# Altium schematic symbol library TEFT4300.SchLib: 1 symbol
Pins are listed as number, name and electrical type; pins without a type are passive.

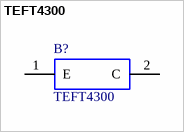
[diagram p0: symbol TEFT4300]

## TEFT4300
designator B?
Vishay TEFT4300 60  Infrared Phototransistor, Through-hole 3mm Package; Geometry.Height: mm; Supplier_Name: RS; RS Part Number: 7082731; Manufacturer_Name: Vishay; Manufacturer_Part_Number: TEFT4300; Allied_Number: *; Other Part Number: *; Datasheet Link: https://componentsearchengine.com/Datasheets/2/TEFT4300.pdf; 3D Package: *
footprint TEFT4300
pins: 1 E, 2 C